# Altium schematic symbol library TNPW12063K20BEEN.SchLib: 1 symbol
Pins are listed as number, name and electrical type; pins without a type are passive.

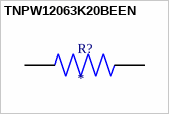
[diagram p0: symbol TNPW12063K20BEEN]

## TNPW12063K20BEEN
designator R?
3.2K OHM .1% 25PPM; MP: TNPW12063K20BEEN; MF: {'manufacturer': u'Vishay'}; Availability: Unavailable; Price: None; Package: None; Value: *
footprint RESC3116X65N
pins: 1, 2